# EAGLE library part MKV30F64VFM10 (library ARM-cortex-m4-kinetis-vseries)
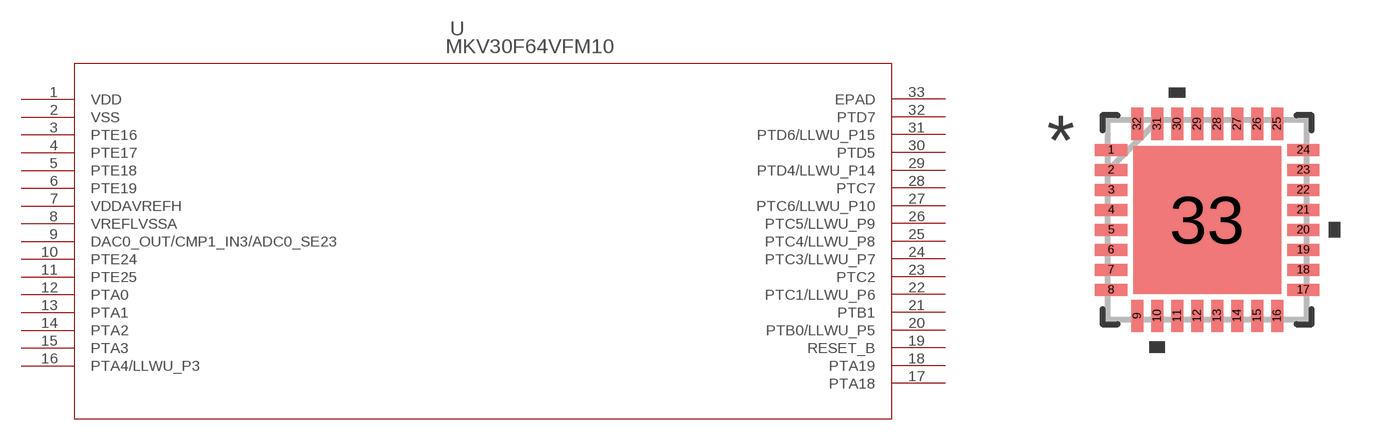
[diagram p0: symbol with the pads of QFN-32_5X5X0.9; footprint QFN-32_5X5X0.9]

Designator prefix U

## MKV30F64VFM10 (CPU: ARM Cortex-M4F; FLASHKB: 64; MANUFACTURER_PART_NUMBER: mkv30f64vfm10; MAXFREQUENCY: 100; PINCOUNT: 32; SRAMKB: 16; VENDOR: FREESCALE)  [QFN-32_5X5X0.9]
1  VDD  pwr
2  VSS  pwr
3  PTE16
4  PTE17
5  PTE18
6  PTE19
7  VDDAVREFH  pwr
8  VREFLVSSA  pwr
9  DAC0_OUT/CMP1_IN3/ADC0_SE23
10  PTE24
11  PTE25
12  PTA0
13  PTA1
14  PTA2
15  PTA3
16  PTA4/LLWU_P3
17  PTA18
18  PTA19
19  RESET_B  pas
20  PTB0/LLWU_P5
21  PTB1
22  PTC1/LLWU_P6
23  PTC2
24  PTC3/LLWU_P7
25  PTC4/LLWU_P8
26  PTC5/LLWU_P9
27  PTC6/LLWU_P10
28  PTC7
29  PTD4/LLWU_P14
30  PTD5
31  PTD6/LLWU_P15
32  PTD7
33  EPAD  pas

## Footprint QFN-32_5X5X0.9 (pad centres in mm)
smd 0.805 x 0.3: 1 -2.402,1.75; 2 -2.402,1.25; 3 -2.402,0.75; 4 -2.402,0.25; 5 -2.402,-0.25; 6 -2.402,-0.75; 7 -2.402,-1.25; 8 -2.402,-1.75; 17 2.402,-1.75; 18 2.402,-1.25; 19 2.402,-0.75; 20 2.402,-0.25; 21 2.402,0.25; 22 2.402,0.75; 23 2.402,1.25; 24 2.402,1.75
smd 0.3 x 0.805: 9 -1.75,-2.402; 10 -1.25,-2.402; 11 -0.75,-2.402; 12 -0.25,-2.402; 13 0.25,-2.402; 14 0.75,-2.402; 15 1.25,-2.402; 16 1.75,-2.402; 25 1.75,2.402; 26 1.25,2.402; 27 0.75,2.402; 28 0.25,2.402; 29 -0.25,2.402; 30 -0.75,2.402; 31 -1.25,2.402; 32 -1.75,2.402
smd 3.7 x 3.7: 33 0,0